# Altium footprint library CONN_HDR_2.54MM_ST_SMDE.PcbLib: 38 footprints (part 2 of 3)
Each footprint in its own frame and in the unit in brackets; x right, y up, seen from the top. Pads: shape width x height; smd on the part's side, far side on the other; paste and mask are expansions set on the pad; w line width, h text height; cw(c..) or ccw(c..) is an arc to the next point about the centre after c.
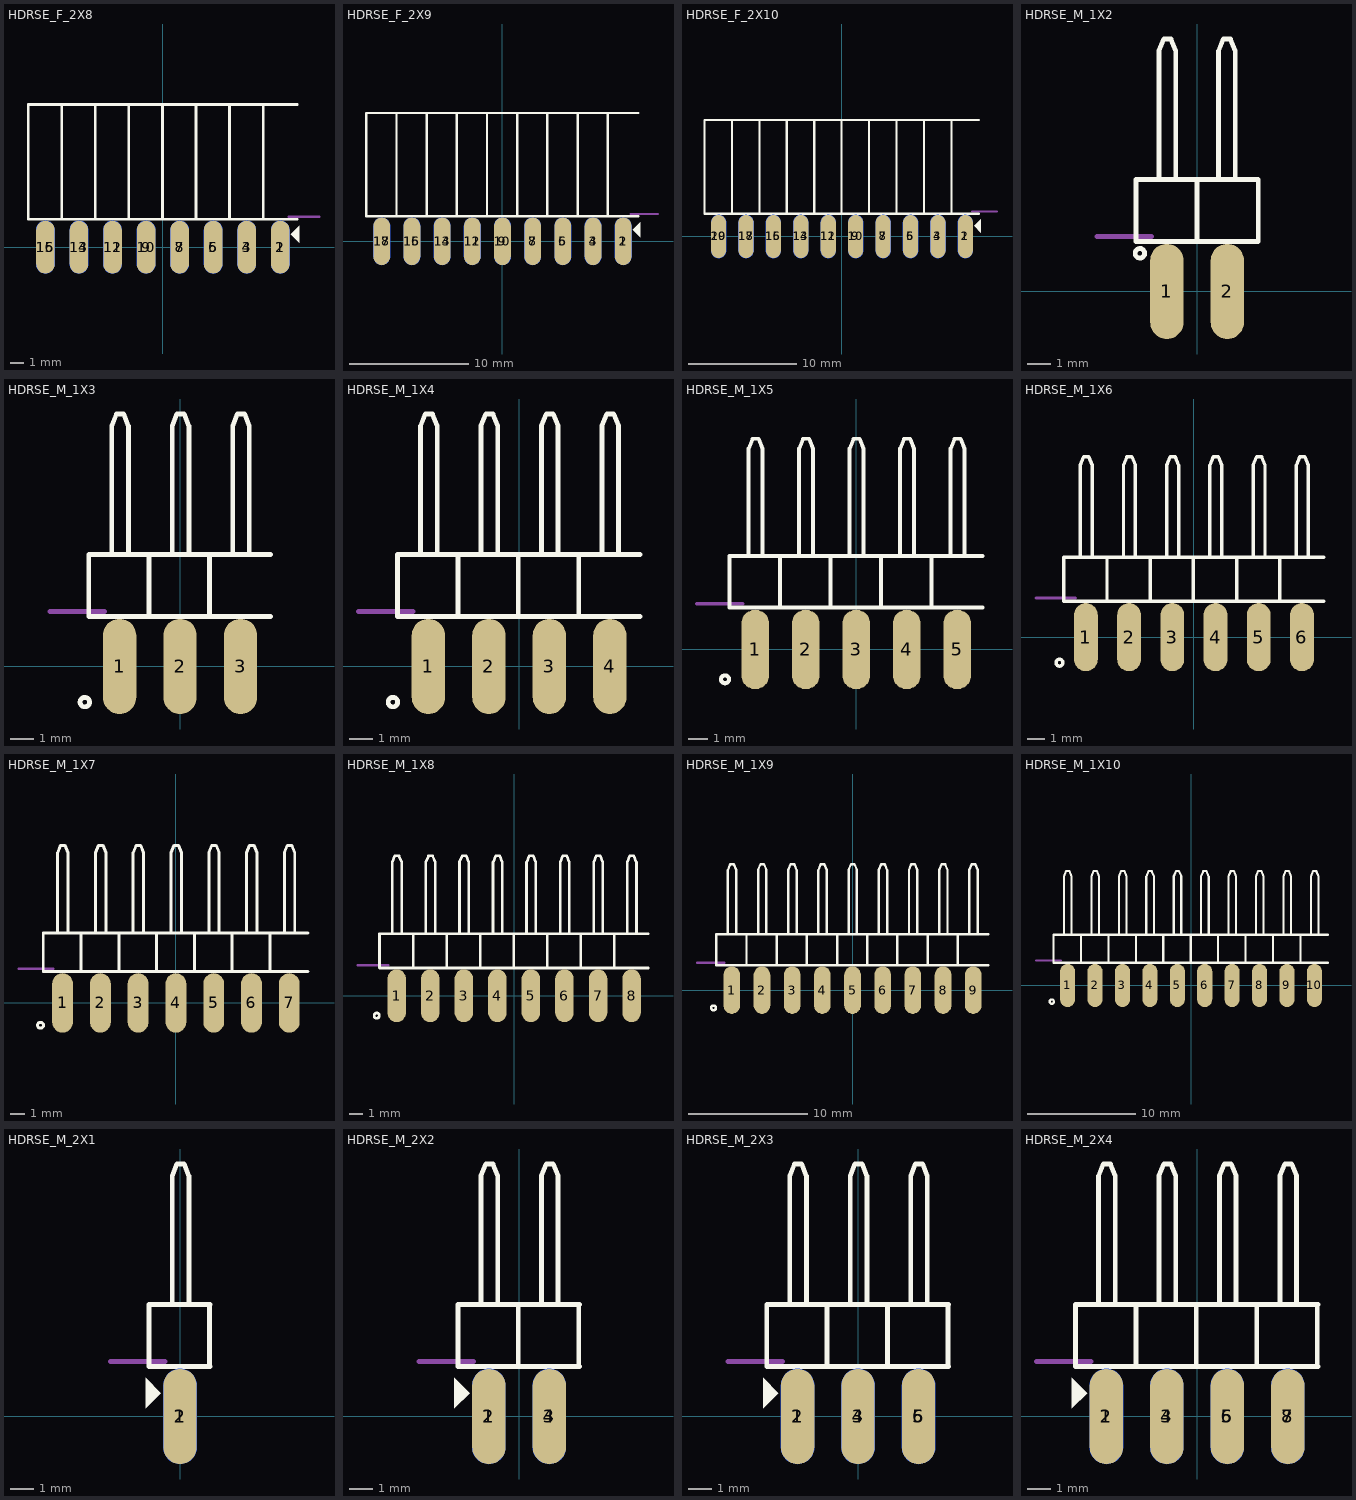
[diagram p1: the footprints below, top view; thin cyan lines are the x and y axes]

## HDRSE_F_2X8 [mm] "Male Header 2X08 with 2.54 mm Pitch"
pads (16):
  oval 1.4x4 smd: 1(8.89,0) 3(6.35,0) 5(3.81,0) 7(1.27,0) 9(-1.27,0) 11(-3.81,0) 13(-6.35,0) 15(-8.89,0)
  oval 1.4x4 smd far side: 2(8.89,0) 4(6.35,0) 6(3.81,0) 8(1.27,0) 10(-1.27,0) 12(-3.81,0) 14(-6.35,0) 16(-8.89,0)
TopOverlay:
  region: 10.333,0.342 9.697,0.979 10.333,1.615
  lines w0.2: -7.62,2.1 -10.19,2.1 -10.19,10.8 -7.62,10.8 ; -5.08,2.1 -7.65,2.1 -7.65,10.8 -5.08,10.8 ; -2.54,2.1 -5.11,2.1 -5.11,10.8 -2.54,10.8 ; 0,2.1 -2.57,2.1 -2.57,10.8 0,10.8 ; 2.54,2.1 -0.03,2.1 -0.03,10.8 2.54,10.8 ; 5.08,2.1 2.51,2.1 2.51,10.8 5.08,10.8 ; 7.62,2.1 5.05,2.1 5.05,10.8 7.62,10.8 ; 10.16,2.1 7.59,2.1 7.59,10.8 10.16,10.8
Mechanical1:
  lines w0.2: 9.52,2.3 11.82,2.3
  text "Edge of PCB" at 9.7,2.5 h0.4
3D body "female_header_a-bl254-eg-g02d.stp": height 2.67, standoff -2.67, extent -10.09,-1 -7.59,10.7
3D body "female_header_a-bl254-eg-g02d.stp": height 2.67, standoff -2.67, extent -7.55,-1 -5.05,10.7
3D body "female_header_a-bl254-eg-g02d.stp": height 2.67, standoff -2.67, extent -5.01,-1 -2.51,10.7
3D body "female_header_a-bl254-eg-g02d.stp": height 2.67, standoff -2.67, extent -2.47,-1 0.03,10.7
3D body "female_header_a-bl254-eg-g02d.stp": height 2.67, standoff -2.67, extent 0.07,-1 2.57,10.7
3D body "female_header_a-bl254-eg-g02d.stp": height 2.67, standoff -2.67, extent 2.61,-1 5.11,10.7
3D body "female_header_a-bl254-eg-g02d.stp": height 2.67, standoff -2.67, extent 5.15,-1 7.65,10.7
3D body "female_header_a-bl254-eg-g02d.stp": height 2.67, standoff -2.67, extent 7.69,-1 10.19,10.7

## HDRSE_F_2X9 [mm] "Male Header 2X09 with 2.54 mm Pitch"
pads (18):
  oval 1.4x4 smd: 1(10.16,0) 3(7.62,0) 5(5.08,0) 7(2.54,0) 9(0,0) 11(-2.54,0) 13(-5.08,0) 15(-7.62,0) 17(-10.16,0)
  oval 1.4x4 smd far side: 2(10.16,0) 4(7.62,0) 6(5.08,0) 8(2.54,0) 10(0,0) 12(-2.54,0) 14(-5.08,0) 16(-7.62,0) 18(-10.16,0)
TopOverlay:
  region: 11.603,0.342 10.967,0.979 11.603,1.615
  lines w0.2: -8.89,2.1 -11.46,2.1 -11.46,10.8 -8.89,10.8 ; -6.35,2.1 -8.92,2.1 -8.92,10.8 -6.35,10.8 ; -3.81,2.1 -6.38,2.1 -6.38,10.8 -3.81,10.8 ; -1.27,2.1 -3.84,2.1 -3.84,10.8 -1.27,10.8 ; 1.27,2.1 -1.3,2.1 -1.3,10.8 1.27,10.8 ; 3.81,2.1 1.24,2.1 1.24,10.8 3.81,10.8 ; 6.35,2.1 3.78,2.1 3.78,10.8 6.35,10.8 ; 8.89,2.1 6.32,2.1 6.32,10.8 8.89,10.8 ; 11.43,2.1 8.86,2.1 8.86,10.8 11.43,10.8
Mechanical1:
  lines w0.2: 10.79,2.3 13.09,2.3
  text "Edge of PCB" at 10.9,2.6 h0.4
3D body "female_header_a-bl254-eg-g02d.stp": height 2.67, standoff -2.67, extent -11.36,-1 -8.86,10.7
3D body "female_header_a-bl254-eg-g02d.stp": height 2.67, standoff -2.67, extent -8.82,-1 -6.32,10.7
3D body "female_header_a-bl254-eg-g02d.stp": height 2.67, standoff -2.67, extent -6.28,-1 -3.78,10.7
3D body "female_header_a-bl254-eg-g02d.stp": height 2.67, standoff -2.67, extent -3.74,-1 -1.24,10.7
3D body "female_header_a-bl254-eg-g02d.stp": height 2.67, standoff -2.67, extent -1.2,-1 1.3,10.7
3D body "female_header_a-bl254-eg-g02d.stp": height 2.67, standoff -2.67, extent 1.34,-1 3.84,10.7
3D body "female_header_a-bl254-eg-g02d.stp": height 2.67, standoff -2.67, extent 3.88,-1 6.38,10.7
3D body "female_header_a-bl254-eg-g02d.stp": height 2.67, standoff -2.67, extent 6.42,-1 8.92,10.7
3D body "female_header_a-bl254-eg-g02d.stp": height 2.67, standoff -2.67, extent 8.96,-1 11.46,10.7

## HDRSE_F_2X10 [mm] "Male Header 2X10 with 2.54 mm Pitch"
pads (20):
  oval 1.4x4 smd: 1(11.43,0) 3(8.89,0) 5(6.35,0) 7(3.81,0) 9(1.27,0) 11(-1.27,0) 13(-3.81,0) 15(-6.35,0) 17(-8.89,0) 19(-11.43,0)
  oval 1.4x4 smd far side: 2(11.43,0) 4(8.89,0) 6(6.35,0) 8(3.81,0) 10(1.27,0) 12(-1.27,0) 14(-3.81,0) 16(-6.35,0) 18(-8.89,0) 20(-11.43,0)
TopOverlay:
  region: 12.873,0.342 12.237,0.979 12.873,1.615
  lines w0.2: -10.16,2.1 -12.73,2.1 -12.73,10.8 -10.16,10.8 ; -7.62,2.1 -10.19,2.1 -10.19,10.8 -7.62,10.8 ; -5.08,2.1 -7.65,2.1 -7.65,10.8 -5.08,10.8 ; -2.54,2.1 -5.11,2.1 -5.11,10.8 -2.54,10.8 ; 0,2.1 -2.57,2.1 -2.57,10.8 0,10.8 ; 2.54,2.1 -0.03,2.1 -0.03,10.8 2.54,10.8 ; 5.08,2.1 2.51,2.1 2.51,10.8 5.08,10.8 ; 7.62,2.1 5.05,2.1 5.05,10.8 7.62,10.8 ; 10.16,2.1 7.59,2.1 7.59,10.8 10.16,10.8 ; 12.7,2.1 10.13,2.1 10.13,10.8 12.7,10.8
Mechanical1:
  lines w0.2: 12.06,2.3 14.36,2.3
  text "Edge of PCB" at 12.2,2.6 h0.4
3D body "female_header_a-bl254-eg-g02d.stp": height 2.67, standoff -2.67, extent 10.23,-1 12.73,10.7
3D body "female_header_a-bl254-eg-g02d.stp": height 2.67, standoff -2.67, extent 7.69,-1 10.19,10.7
3D body "female_header_a-bl254-eg-g02d.stp": height 2.67, standoff -2.67, extent 5.15,-1 7.65,10.7
3D body "female_header_a-bl254-eg-g02d.stp": height 2.67, standoff -2.67, extent 2.61,-1 5.11,10.7
3D body "female_header_a-bl254-eg-g02d.stp": height 2.67, standoff -2.67, extent 0.07,-1 2.57,10.7
3D body "female_header_a-bl254-eg-g02d.stp": height 2.67, standoff -2.67, extent -2.47,-1 0.03,10.7
3D body "female_header_a-bl254-eg-g02d.stp": height 2.67, standoff -2.67, extent -5.01,-1 -2.51,10.7
3D body "female_header_a-bl254-eg-g02d.stp": height 2.67, standoff -2.67, extent -7.55,-1 -5.05,10.7
3D body "female_header_a-bl254-eg-g02d.stp": height 2.67, standoff -2.67, extent -10.09,-1 -7.59,10.7
3D body "female_header_a-bl254-eg-g02d.stp": height 2.67, standoff -2.67, extent -12.63,-1 -10.13,10.7

## HDRSE_M_1X2 [mm] "Connector; Header; 2 Position, SMD edge"
height 1.8
pads (2):
  oval 1.4x4 smd mask+0.1: 1(-1.27,0) 2(1.27,0)
TopOverlay:
  circle w0.2: c-2.4,1.6 r0.2
  lines w0.2: -1.6,4.7 -1.6,10.1 -1.4,10.6 -1.1,10.6 -0.9,10.1 ; -0.9,4.7 -0.9,10.1 ; 0.9,4.7 0.9,10.1 ; 1.6,4.7 1.6,10.1 1.4,10.6 1.1,10.6 0.9,10.1 ; -0.9,10.1 -0.9,10.1 ; 0,2.1 0,4.7 ; 0,2.1 -2.57,2.1 -2.57,4.7 0,4.7 ; 0,2.1 2.57,2.1 2.57,4.7 0,4.7 ; 0.9,10.1 0.9,10.1
Mechanical1:
  lines w0.2: -4.2,2.3 -1.9,2.3
  text "Edge of PCB" at -4.3,2.5 h0.4
3D body "pin_header_aw140-eg-g02a.stp": height 1.55, standoff -0.95, extent -2.54,-1.78 2.44,10.62

## HDRSE_M_1X3 [mm] "Connector; Header; 3 Position"
pads (3):
  oval 1.4x4 smd mask+0.1: 1(-2.54,0) 2(0,0) 3(2.54,0)
TopOverlay:
  circle w0.2: c-4,-1.5 r0.2
  lines w0.2: -2.87,4.7 -2.87,10.1 -2.67,10.6 -2.37,10.6 -2.17,10.1 ; -2.17,4.7 -2.17,10.1 ; -1.27,2.1 -3.84,2.1 -3.84,4.7 -1.27,4.7 ; -0.33,4.7 -0.33,10.1 -0.13,10.6 0.17,10.6 0.37,10.1 ; 0.37,4.7 0.37,10.1 ; 1.27,2.1 -1.3,2.1 -1.3,4.7 1.27,4.7 ; 2.21,4.7 2.21,10.1 2.41,10.6 2.71,10.6 2.91,10.1 ; 2.91,4.7 2.91,10.1 ; 3.81,2.1 1.24,2.1 1.24,4.7 3.81,4.7 ; -2.17,10.1 -2.17,10.1 ; 0.37,10.1 0.37,10.1 ; 2.91,10.1 2.91,10.1
Mechanical1:
  lines w0.2: -5.47,2.3 -3.17,2.3
  text "Edge of PCB" at -5.57,2.5 h0.4
3D body "PLS-1.step": height 1.37, standoff -1.17, extent 1.295,-0.9 3.835,10.54
3D body "PLS-1.step": height 1.37, standoff -1.17, extent -1.245,-0.9 1.295,10.54
3D body "PLS-1.step": height 1.37, standoff -1.17, extent -3.785,-0.9 -1.245,10.54

## HDRSE_M_1X4 [mm] "Connector; Header; 4 Position"
pads (4):
  oval 1.4x4 smd mask+0.1: 1(-3.81,0) 2(-1.27,0) 3(1.27,0) 4(3.81,0)
TopOverlay:
  circle w0.2: c-5.3,-1.5 r0.2
  lines w0.2: -4.14,4.7 -4.14,10.1 -3.94,10.6 -3.64,10.6 -3.44,10.1 ; -3.44,4.7 -3.44,10.1 ; -2.54,2.1 -5.11,2.1 -5.11,4.7 -2.54,4.7 ; -1.6,4.7 -1.6,10.1 -1.4,10.6 -1.1,10.6 -0.9,10.1 ; -0.9,4.7 -0.9,10.1 ; 0,2.1 -2.57,2.1 -2.57,4.7 0,4.7 ; 0.94,4.7 0.94,10.1 1.14,10.6 1.44,10.6 1.64,10.1 ; 1.64,4.7 1.64,10.1 ; 2.54,2.1 -0.03,2.1 -0.03,4.7 2.54,4.7 ; 3.48,4.7 3.48,10.1 3.68,10.6 3.98,10.6 4.18,10.1 ; 4.18,4.7 4.18,10.1 ; 5.08,2.1 2.51,2.1 2.51,4.7 5.08,4.7 ; -3.44,10.1 -3.44,10.1 ; -0.9,10.1 -0.9,10.1 ; 1.64,10.1 1.64,10.1 ; 4.18,10.1 4.18,10.1
Mechanical1:
  lines w0.2: -6.74,2.3 -4.44,2.3
  text "Edge of PCB" at -6.84,2.5 h0.4
3D body "PLS-1.step": height 1.37, standoff -1.17, extent -5.055,-0.9 -2.515,10.54
3D body "PLS-1.step": height 1.37, standoff -1.17, extent -2.515,-0.9 0.025,10.54
3D body "PLS-1.step": height 1.37, standoff -1.17, extent 0.025,-0.9 2.565,10.54
3D body "PLS-1.step": height 1.37, standoff -1.17, extent 2.565,-0.9 5.105,10.54

## HDRSE_M_1X5 [mm] "Connector; Header; 5 Position"
pads (5):
  oval 1.4x4 smd mask+0.1: 1(-5.08,0) 2(-2.54,0) 3(0,0) 4(2.54,0) 5(5.08,0)
TopOverlay:
  circle w0.2: c-6.6,-1.5 r0.2
  lines w0.2: -5.41,4.7 -5.41,10.1 -5.21,10.6 -4.91,10.6 -4.71,10.1 ; -4.71,4.7 -4.71,10.1 ; -3.81,2.1 -6.38,2.1 -6.38,4.7 -3.81,4.7 ; -2.87,4.7 -2.87,10.1 -2.67,10.6 -2.37,10.6 -2.17,10.1 ; -2.17,4.7 -2.17,10.1 ; -1.27,2.1 -3.84,2.1 -3.84,4.7 -1.27,4.7 ; -0.33,4.7 -0.33,10.1 -0.13,10.6 0.17,10.6 0.37,10.1 ; 0.37,4.7 0.37,10.1 ; 1.27,2.1 -1.3,2.1 -1.3,4.7 1.27,4.7 ; 2.21,4.7 2.21,10.1 2.41,10.6 2.71,10.6 2.91,10.1 ; 2.91,4.7 2.91,10.1 ; 3.81,2.1 1.24,2.1 1.24,4.7 3.81,4.7 ; 4.75,4.7 4.75,10.1 4.95,10.6 5.25,10.6 5.45,10.1 ; 5.45,4.7 5.45,10.1 ; 6.35,2.1 3.78,2.1 3.78,4.7 6.35,4.7 ; -4.71,10.1 -4.71,10.1 ; -2.17,10.1 -2.17,10.1 ; 0.37,10.1 0.37,10.1 ; 2.91,10.1 2.91,10.1 ; 5.45,10.1 5.45,10.1
Mechanical1:
  lines w0.2: -8.01,2.3 -5.71,2.3
  text "Edge of PCB" at -8.11,2.5 h0.4
3D body "PLS-1.step": height 1.37, standoff -1.17, extent 3.835,-0.9 6.375,10.54
3D body "PLS-1.step": height 1.37, standoff -1.17, extent 1.295,-0.9 3.835,10.54
3D body "PLS-1.step": height 1.37, standoff -1.17, extent -1.245,-0.9 1.295,10.54
3D body "PLS-1.step": height 1.37, standoff -1.17, extent -3.785,-0.9 -1.245,10.54
3D body "PLS-1.step": height 1.37, standoff -1.17, extent -6.325,-0.9 -3.785,10.54

## HDRSE_M_1X6 [mm] "Connector; Header; 6 Position"
pads (6):
  oval 1.4x4 smd mask+0.1: 1(-6.35,0) 2(-3.81,0) 3(-1.27,0) 4(1.27,0) 5(3.81,0) 6(6.35,0)
TopOverlay:
  circle w0.2: c-7.9,-1.5 r0.2
  lines w0.2: -6.68,4.7 -6.68,10.1 -6.48,10.6 -6.18,10.6 -5.98,10.1 ; -5.98,4.7 -5.98,10.1 ; -5.08,2.1 -7.65,2.1 -7.65,4.7 -5.08,4.7 ; -4.14,4.7 -4.14,10.1 -3.94,10.6 -3.64,10.6 -3.44,10.1 ; -3.44,4.7 -3.44,10.1 ; -2.54,2.1 -5.11,2.1 -5.11,4.7 -2.54,4.7 ; -1.6,4.7 -1.6,10.1 -1.4,10.6 -1.1,10.6 -0.9,10.1 ; -0.9,4.7 -0.9,10.1 ; 0,2.1 -2.57,2.1 -2.57,4.7 0,4.7 ; 0.94,4.7 0.94,10.1 1.14,10.6 1.44,10.6 1.64,10.1 ; 1.64,4.7 1.64,10.1 ; 2.54,2.1 -0.03,2.1 -0.03,4.7 2.54,4.7 ; 3.48,4.7 3.48,10.1 3.68,10.6 3.98,10.6 4.18,10.1 ; 4.18,4.7 4.18,10.1 ; 5.08,2.1 2.51,2.1 2.51,4.7 5.08,4.7 ; 6.02,4.7 6.02,10.1 6.22,10.6 6.52,10.6 6.72,10.1 ; 6.72,4.7 6.72,10.1 ; 7.62,2.1 5.05,2.1 5.05,4.7 7.62,4.7 ; -5.98,10.1 -5.98,10.1 ; -3.44,10.1 -3.44,10.1 ; -0.9,10.1 -0.9,10.1 ; 1.64,10.1 1.64,10.1 ; 4.18,10.1 4.18,10.1 ; 6.72,10.1 6.72,10.1
Mechanical1:
  lines w0.2: -9.28,2.3 -6.98,2.3
  text "Edge of PCB" at -9.38,2.5 h0.4
3D body "PLS-1.step": height 1.37, standoff -1.17, extent 5.105,-0.9 7.645,10.54
3D body "PLS-1.step": height 1.37, standoff -1.17, extent 2.565,-0.9 5.105,10.54
3D body "PLS-1.step": height 1.37, standoff -1.17, extent 0.025,-0.9 2.565,10.54
3D body "PLS-1.step": height 1.37, standoff -1.17, extent -2.515,-0.9 0.025,10.54
3D body "PLS-1.step": height 1.37, standoff -1.17, extent -5.055,-0.9 -2.515,10.54
3D body "PLS-1.step": height 1.37, standoff -1.17, extent -7.595,-0.9 -5.055,10.54

## HDRSE_M_1X7 [mm] "Connector; Header; 7 Position"
pads (7):
  oval 1.4x4 smd mask+0.1: 1(-7.62,0) 2(-5.08,0) 3(-2.54,0) 4(0,0) 5(2.54,0) 6(5.08,0) 7(7.62,0)
TopOverlay:
  circle w0.2: c-9.1,-1.5 r0.2
  lines w0.2: -7.95,4.7 -7.95,10.1 -7.75,10.6 -7.45,10.6 -7.25,10.1 ; -7.25,4.7 -7.25,10.1 ; -6.35,2.1 -8.92,2.1 -8.92,4.7 -6.35,4.7 ; -5.41,4.7 -5.41,10.1 -5.21,10.6 -4.91,10.6 -4.71,10.1 ; -4.71,4.7 -4.71,10.1 ; -3.81,2.1 -6.38,2.1 -6.38,4.7 -3.81,4.7 ; -2.87,4.7 -2.87,10.1 -2.67,10.6 -2.37,10.6 -2.17,10.1 ; -2.17,4.7 -2.17,10.1 ; -1.27,2.1 -3.84,2.1 -3.84,4.7 -1.27,4.7 ; -0.33,4.7 -0.33,10.1 -0.13,10.6 0.17,10.6 0.37,10.1 ; 0.37,4.7 0.37,10.1 ; 1.27,2.1 -1.3,2.1 -1.3,4.7 1.27,4.7 ; 2.21,4.7 2.21,10.1 2.41,10.6 2.71,10.6 2.91,10.1 ; 2.91,4.7 2.91,10.1 ; 3.81,2.1 1.24,2.1 1.24,4.7 3.81,4.7 ; 4.75,4.7 4.75,10.1 4.95,10.6 5.25,10.6 5.45,10.1 ; 5.45,4.7 5.45,10.1 ; 6.35,2.1 3.78,2.1 3.78,4.7 6.35,4.7 ; 7.29,4.7 7.29,10.1 7.49,10.6 7.79,10.6 7.99,10.1 ; 7.99,4.7 7.99,10.1 ; 8.89,2.1 6.32,2.1 6.32,4.7 8.89,4.7 ; -7.25,10.1 -7.25,10.1 ; -4.71,10.1 -4.71,10.1 ; -2.17,10.1 -2.17,10.1 ; 0.37,10.1 0.37,10.1 ; 2.91,10.1 2.91,10.1 ; 5.45,10.1 5.45,10.1 ; 7.99,10.1 7.99,10.1
Mechanical1:
  lines w0.2: -10.55,2.3 -8.25,2.3
  text "Edge of PCB" at -10.65,2.5 h0.4
3D body "PLS-1.step": height 1.37, standoff -1.17, extent 6.375,-0.9 8.915,10.54
3D body "PLS-1.step": height 1.37, standoff -1.17, extent 3.835,-0.9 6.375,10.54
3D body "PLS-1.step": height 1.37, standoff -1.17, extent 1.295,-0.9 3.835,10.54
3D body "PLS-1.step": height 1.37, standoff -1.17, extent -1.245,-0.9 1.295,10.54
3D body "PLS-1.step": height 1.37, standoff -1.17, extent -3.785,-0.9 -1.245,10.54
3D body "PLS-1.step": height 1.37, standoff -1.17, extent -6.325,-0.9 -3.785,10.54
3D body "PLS-1.step": height 1.37, standoff -1.17, extent -8.865,-0.9 -6.325,10.54

## HDRSE_M_1X8 [mm] "Connector; Header; 8 Position"
pads (8):
  oval 1.4x4 smd mask+0.1: 1(-8.89,0) 2(-6.35,0) 3(-3.81,0) 4(-1.27,0) 5(1.27,0) 6(3.81,0) 7(6.35,0) 8(8.89,0)
TopOverlay:
  circle w0.2: c-10.4,-1.5 r0.2
  lines w0.2: -9.22,4.7 -9.22,10.1 -9.02,10.6 -8.72,10.6 -8.52,10.1 ; -8.52,4.7 -8.52,10.1 ; -7.62,2.1 -10.19,2.1 -10.19,4.7 -7.62,4.7 ; -6.68,4.7 -6.68,10.1 -6.48,10.6 -6.18,10.6 -5.98,10.1 ; -5.98,4.7 -5.98,10.1 ; -5.08,2.1 -7.65,2.1 -7.65,4.7 -5.08,4.7 ; -4.14,4.7 -4.14,10.1 -3.94,10.6 -3.64,10.6 -3.44,10.1 ; -3.44,4.7 -3.44,10.1 ; -2.54,2.1 -5.11,2.1 -5.11,4.7 -2.54,4.7 ; -1.6,4.7 -1.6,10.1 -1.4,10.6 -1.1,10.6 -0.9,10.1 ; -0.9,4.7 -0.9,10.1 ; 0,2.1 -2.57,2.1 -2.57,4.7 0,4.7 ; 0.94,4.7 0.94,10.1 1.14,10.6 1.44,10.6 1.64,10.1 ; 1.64,4.7 1.64,10.1 ; 2.54,2.1 -0.03,2.1 -0.03,4.7 2.54,4.7 ; 3.48,4.7 3.48,10.1 3.68,10.6 3.98,10.6 4.18,10.1 ; 4.18,4.7 4.18,10.1 ; 5.08,2.1 2.51,2.1 2.51,4.7 5.08,4.7 ; 6.02,4.7 6.02,10.1 6.22,10.6 6.52,10.6 6.72,10.1 ; 6.72,4.7 6.72,10.1 ; 7.62,2.1 5.05,2.1 5.05,4.7 7.62,4.7 ; 8.56,4.7 8.56,10.1 8.76,10.6 9.06,10.6 9.26,10.1 ; 9.26,4.7 9.26,10.1 ; 10.16,2.1 7.59,2.1 7.59,4.7 10.16,4.7 ; -8.52,10.1 -8.52,10.1 ; -5.98,10.1 -5.98,10.1 ; -3.44,10.1 -3.44,10.1 ; -0.9,10.1 -0.9,10.1 ; 1.64,10.1 1.64,10.1 ; 4.18,10.1 4.18,10.1 ; 6.72,10.1 6.72,10.1 ; 9.26,10.1 9.26,10.1
Mechanical1:
  lines w0.2: -11.82,2.3 -9.52,2.3
  text "Edge of PCB" at -11.92,2.5 h0.4
3D body "PLS-1.step": height 1.37, standoff -1.17, extent 7.645,-0.9 10.185,10.54
3D body "PLS-1.step": height 1.37, standoff -1.17, extent 5.105,-0.9 7.645,10.54
3D body "PLS-1.step": height 1.37, standoff -1.17, extent 2.565,-0.9 5.105,10.54
3D body "PLS-1.step": height 1.37, standoff -1.17, extent 0.025,-0.9 2.565,10.54
3D body "PLS-1.step": height 1.37, standoff -1.17, extent -2.515,-0.9 0.025,10.54
3D body "PLS-1.step": height 1.37, standoff -1.17, extent -5.055,-0.9 -2.515,10.54
3D body "PLS-1.step": height 1.37, standoff -1.17, extent -7.595,-0.9 -5.055,10.54
3D body "PLS-1.step": height 1.37, standoff -1.17, extent -10.135,-0.9 -7.595,10.54

## HDRSE_M_1X9 [mm] "Connector; Header; 9 Position"
pads (9):
  oval 1.4x4 smd mask+0.1: 1(-10.16,0) 2(-7.62,0) 3(-5.08,0) 4(-2.54,0) 5(0,0) 6(2.54,0) 7(5.08,0) 8(7.62,0) 9(10.16,0)
TopOverlay:
  circle w0.2: c-11.7,-1.5 r0.2
  lines w0.2: -10.49,4.7 -10.49,10.1 -10.29,10.6 -9.99,10.6 -9.79,10.1 ; -9.79,4.7 -9.79,10.1 ; -8.89,2.1 -11.46,2.1 -11.46,4.7 -8.89,4.7 ; -7.95,4.7 -7.95,10.1 -7.75,10.6 -7.45,10.6 -7.25,10.1 ; -7.25,4.7 -7.25,10.1 ; -6.35,2.1 -8.92,2.1 -8.92,4.7 -6.35,4.7 ; -5.41,4.7 -5.41,10.1 -5.21,10.6 -4.91,10.6 -4.71,10.1 ; -4.71,4.7 -4.71,10.1 ; -3.81,2.1 -6.38,2.1 -6.38,4.7 -3.81,4.7 ; -2.87,4.7 -2.87,10.1 -2.67,10.6 -2.37,10.6 -2.17,10.1 ; -2.17,4.7 -2.17,10.1 ; -1.27,2.1 -3.84,2.1 -3.84,4.7 -1.27,4.7 ; -0.33,4.7 -0.33,10.1 -0.13,10.6 0.17,10.6 0.37,10.1 ; 0.37,4.7 0.37,10.1 ; 1.27,2.1 -1.3,2.1 -1.3,4.7 1.27,4.7 ; 2.21,4.7 2.21,10.1 2.41,10.6 2.71,10.6 2.91,10.1 ; 2.91,4.7 2.91,10.1 ; 3.81,2.1 1.24,2.1 1.24,4.7 3.81,4.7 ; 4.75,4.7 4.75,10.1 4.95,10.6 5.25,10.6 5.45,10.1 ; 5.45,4.7 5.45,10.1 ; 6.35,2.1 3.78,2.1 3.78,4.7 6.35,4.7 ; 7.29,4.7 7.29,10.1 7.49,10.6 7.79,10.6 7.99,10.1 ; 7.99,4.7 7.99,10.1 ; 8.89,2.1 6.32,2.1 6.32,4.7 8.89,4.7 ; 9.83,4.7 9.83,10.1 10.03,10.6 10.33,10.6 10.53,10.1 ; 10.53,4.7 10.53,10.1 ; 11.43,2.1 8.86,2.1 8.86,4.7 11.43,4.7 ; -9.79,10.1 -9.79,10.1 ; -7.25,10.1 -7.25,10.1 ; -4.71,10.1 -4.71,10.1 ; -2.17,10.1 -2.17,10.1 ; 0.37,10.1 0.37,10.1 ; 2.91,10.1 2.91,10.1 ; 5.45,10.1 5.45,10.1 ; 7.99,10.1 7.99,10.1 ; 10.53,10.1 10.53,10.1
Mechanical1:
  lines w0.2: -13.09,2.3 -10.79,2.3
  text "Edge of PCB" at -13.19,2.5 h0.4
3D body "PLS-1.step": height 1.37, standoff -1.17, extent 8.915,-0.9 11.455,10.54
3D body "PLS-1.step": height 1.37, standoff -1.17, extent 6.375,-0.9 8.915,10.54
3D body "PLS-1.step": height 1.37, standoff -1.17, extent 3.835,-0.9 6.375,10.54
3D body "PLS-1.step": height 1.37, standoff -1.17, extent 1.295,-0.9 3.835,10.54
3D body "PLS-1.step": height 1.37, standoff -1.17, extent -1.245,-0.9 1.295,10.54
3D body "PLS-1.step": height 1.37, standoff -1.17, extent -3.785,-0.9 -1.245,10.54
3D body "PLS-1.step": height 1.37, standoff -1.17, extent -6.325,-0.9 -3.785,10.54
3D body "PLS-1.step": height 1.37, standoff -1.17, extent -8.865,-0.9 -6.325,10.54
3D body "PLS-1.step": height 1.37, standoff -1.17, extent -11.405,-0.9 -8.865,10.54

## HDRSE_M_1X10 [mm] "Connector; Header; 10 Position"
pads (10):
  oval 1.4x4 smd mask+0.1: 1(-11.43,0) 2(-8.89,0) 3(-6.35,0) 4(-3.81,0) 5(-1.27,0) 6(1.27,0) 7(3.81,0) 8(6.35,0) 9(8.89,0) 10(11.43,0)
TopOverlay:
  circle w0.2: c-12.9,-1.5 r0.2
  lines w0.2: -11.76,4.7 -11.76,10.1 -11.56,10.6 -11.26,10.6 -11.06,10.1 ; -11.06,4.7 -11.06,10.1 ; -10.16,2.1 -12.73,2.1 -12.73,4.7 -10.16,4.7 ; -9.22,4.7 -9.22,10.1 -9.02,10.6 -8.72,10.6 -8.52,10.1 ; -8.52,4.7 -8.52,10.1 ; -7.62,2.1 -10.19,2.1 -10.19,4.7 -7.62,4.7 ; -6.68,4.7 -6.68,10.1 -6.48,10.6 -6.18,10.6 -5.98,10.1 ; -5.98,4.7 -5.98,10.1 ; -5.08,2.1 -7.65,2.1 -7.65,4.7 -5.08,4.7 ; -4.14,4.7 -4.14,10.1 -3.94,10.6 -3.64,10.6 -3.44,10.1 ; -3.44,4.7 -3.44,10.1 ; -2.54,2.1 -5.11,2.1 -5.11,4.7 -2.54,4.7 ; -1.6,4.7 -1.6,10.1 -1.4,10.6 -1.1,10.6 -0.9,10.1 ; -0.9,4.7 -0.9,10.1 ; 0,2.1 -2.57,2.1 -2.57,4.7 0,4.7 ; 0.94,4.7 0.94,10.1 1.14,10.6 1.44,10.6 1.64,10.1 ; 1.64,4.7 1.64,10.1 ; 2.54,2.1 -0.03,2.1 -0.03,4.7 2.54,4.7 ; 3.48,4.7 3.48,10.1 3.68,10.6 3.98,10.6 4.18,10.1 ; 4.18,4.7 4.18,10.1 ; 5.08,2.1 2.51,2.1 2.51,4.7 5.08,4.7 ; 6.02,4.7 6.02,10.1 6.22,10.6 6.52,10.6 6.72,10.1 ; 6.72,4.7 6.72,10.1 ; 7.62,2.1 5.05,2.1 5.05,4.7 7.62,4.7 ; 8.56,4.7 8.56,10.1 8.76,10.6 9.06,10.6 9.26,10.1 ; 9.26,4.7 9.26,10.1 ; 10.16,2.1 7.59,2.1 7.59,4.7 10.16,4.7 ; 11.1,4.7 11.1,10.1 11.3,10.6 11.6,10.6 11.8,10.1 ; 11.8,4.7 11.8,10.1 ; 12.7,2.1 10.13,2.1 10.13,4.7 12.7,4.7 ; -11.06,10.1 -11.06,10.1 ; -8.52,10.1 -8.52,10.1 ; -5.98,10.1 -5.98,10.1 ; -3.44,10.1 -3.44,10.1 ; -0.9,10.1 -0.9,10.1 ; 1.64,10.1 1.64,10.1 ; 4.18,10.1 4.18,10.1 ; 6.72,10.1 6.72,10.1 ; 9.26,10.1 9.26,10.1 ; 11.8,10.1 11.8,10.1
Mechanical1:
  lines w0.2: -14.36,2.3 -12.06,2.3
  text "Edge of PCB" at -14.46,2.5 h0.4
3D body "PLS-1.step": height 1.37, standoff -1.17, extent -12.675,-0.9 -10.135,10.54
3D body "PLS-1.step": height 1.37, standoff -1.17, extent -10.135,-0.9 -7.595,10.54
3D body "PLS-1.step": height 1.37, standoff -1.17, extent -7.595,-0.9 -5.055,10.54
3D body "PLS-1.step": height 1.37, standoff -1.17, extent -5.055,-0.9 -2.515,10.54
3D body "PLS-1.step": height 1.37, standoff -1.17, extent -2.515,-0.9 0.025,10.54
3D body "PLS-1.step": height 1.37, standoff -1.17, extent 0.025,-0.9 2.565,10.54
3D body "PLS-1.step": height 1.37, standoff -1.17, extent 2.565,-0.9 5.105,10.54
3D body "PLS-1.step": height 1.37, standoff -1.17, extent 5.105,-0.9 7.645,10.54
3D body "PLS-1.step": height 1.37, standoff -1.17, extent 7.645,-0.9 10.185,10.54
3D body "PLS-1.step": height 1.37, standoff -1.17, extent 10.185,-0.9 12.725,10.54

## HDRSE_M_2X1 [mm] "Connector; Header; 2x1 Position"
pads (2):
  oval 1.4x4 smd: 1(0,0)
  oval 1.4x4 smd far side mask+0.1: 2(0,0)
TopOverlay:
  region: -1.443,0.342 -0.807,0.979 -1.443,1.615
  lines w0.2: -0.33,4.7 -0.33,10.1 -0.13,10.6 0.17,10.6 0.37,10.1 ; 0.37,4.7 0.37,10.1 ; 1.24,2.1 1.24,4.7 ; 1.27,2.1 -1.3,2.1 -1.3,4.7 1.27,4.7 ; 0.37,10.1 0.37,10.1
Mechanical1:
  lines w0.2: -2.93,2.3 -0.63,2.3
  text "Edge of PCB" at -3.03,2.5 h0.4
3D body "User Library-Header_Male_2Pin.STEP": height 1.27, standoff -3.81, extent -1.2,-1 1.29,10.54

## HDRSE_M_2X2 [mm] "Connector; Header; 2x2 Position"
pads (4):
  oval 1.4x4 smd: 1(-1.27,0)
  oval 1.4x4 smd far side mask+0.1: 2(-1.27,0) 4(1.27,0)
  oval 1.4x4 smd mask+0.1: 3(1.27,0)
TopOverlay:
  region: -2.713,0.342 -2.077,0.979 -2.713,1.615
  lines w0.2: -1.6,4.7 -1.6,10.1 -1.4,10.6 -1.1,10.6 -0.9,10.1 ; -0.9,4.7 -0.9,10.1 ; 0,2.1 -2.57,2.1 -2.57,4.7 0,4.7 ; 0.94,4.7 0.94,10.1 1.14,10.6 1.44,10.6 1.64,10.1 ; 1.64,4.7 1.64,10.1 ; 2.51,2.1 2.51,4.7 ; 2.54,2.1 -0.03,2.1 -0.03,4.7 2.54,4.7 ; -0.9,10.1 -0.9,10.1 ; 1.64,10.1 1.64,10.1
Mechanical1:
  lines w0.2: -4.2,2.3 -1.9,2.3
  text "Edge of PCB" at -4.3,2.5 h0.4
3D body "User Library-Header_Male_2Pin.STEP": height 1.27, standoff -3.81, extent 0.07,-1 2.56,10.54
3D body "User Library-Header_Male_2Pin.STEP": height 1.27, standoff -3.81, extent -2.47,-1 0.02,10.54

## HDRSE_M_2X3 [mm] "Connector; Header; 3x2 Position"
pads (6):
  oval 1.4x4 smd mask+0.1: 1(-2.54,0) 3(0,0) 5(2.54,0)
  oval 1.4x4 smd far side mask+0.1: 2(-2.54,0) 4(0,0) 6(2.54,0)
TopOverlay:
  region: -3.983,0.342 -3.347,0.979 -3.983,1.615
  lines w0.2: -2.87,4.7 -2.87,10.1 -2.67,10.6 -2.37,10.6 -2.17,10.1 ; -2.17,4.7 -2.17,10.1 ; -1.27,2.1 -3.84,2.1 -3.84,4.7 -1.27,4.7 ; -0.33,4.7 -0.33,10.1 -0.13,10.6 0.17,10.6 0.37,10.1 ; 0.37,4.7 0.37,10.1 ; 1.27,2.1 -1.3,2.1 -1.3,4.7 1.27,4.7 ; 2.21,4.7 2.21,10.1 2.41,10.6 2.71,10.6 2.91,10.1 ; 2.91,4.7 2.91,10.1 ; 3.78,2.1 3.78,4.7 ; 3.81,2.1 1.24,2.1 1.24,4.7 3.81,4.7 ; -2.17,10.1 -2.17,10.1 ; 0.37,10.1 0.37,10.1 ; 2.91,10.1 2.91,10.1
Mechanical1:
  lines w0.2: -5.47,2.3 -3.17,2.3
  text "Edge of PCB" at -5.57,2.5 h0.4
3D body "User Library-Header_Male_2Pin.STEP": height 1.27, standoff -3.81, extent 1.34,-1 3.83,10.54
3D body "User Library-Header_Male_2Pin.STEP": height 1.27, standoff -3.81, extent -1.2,-1 1.29,10.54
3D body "User Library-Header_Male_2Pin.STEP": height 1.27, standoff -3.81, extent -3.74,-1 -1.25,10.54

## HDRSE_M_2X4 [mm] "Male Header 2X04 with 2.54 mm Pitch"
pads (8):
  oval 1.4x4 smd mask+0.1: 1(-3.81,0) 3(-1.27,0) 5(1.27,0) 7(3.81,0)
  oval 1.4x4 smd far side mask+0.1: 2(-3.81,0) 4(-1.27,0) 6(1.27,0) 8(3.81,0)
TopOverlay:
  region: -5.253,0.342 -4.617,0.979 -5.253,1.615
  lines w0.2: -4.14,4.7 -4.14,10.1 -3.94,10.6 -3.64,10.6 -3.44,10.1 ; -3.44,4.7 -3.44,10.1 ; -2.54,2.1 -5.11,2.1 -5.11,4.7 -2.54,4.7 ; -1.6,4.7 -1.6,10.1 -1.4,10.6 -1.1,10.6 -0.9,10.1 ; -0.9,4.7 -0.9,10.1 ; 0,2.1 -2.57,2.1 -2.57,4.7 0,4.7 ; 0.94,4.7 0.94,10.1 1.14,10.6 1.44,10.6 1.64,10.1 ; 1.64,4.7 1.64,10.1 ; 2.54,2.1 -0.03,2.1 -0.03,4.7 2.54,4.7 ; 3.48,4.7 3.48,10.1 3.68,10.6 3.98,10.6 4.18,10.1 ; 4.18,4.7 4.18,10.1 ; 5.05,2.1 5.05,4.7 ; 5.08,2.1 2.51,2.1 2.51,4.7 5.08,4.7 ; -3.44,10.1 -3.44,10.1 ; -0.9,10.1 -0.9,10.1 ; 1.64,10.1 1.64,10.1 ; 4.18,10.1 4.18,10.1
Mechanical1:
  lines w0.2: -6.74,2.3 -4.44,2.3
  text "Edge of PCB" at -6.84,2.5 h0.4
3D body "User Library-Header_Male_2Pin.STEP": height 1.27, standoff -3.81, extent -5.01,-1 -2.52,10.54
3D body "User Library-Header_Male_2Pin.STEP": height 1.27, standoff -3.81, extent -2.47,-1 0.02,10.54
3D body "User Library-Header_Male_2Pin.STEP": height 1.27, standoff -3.81, extent 0.07,-1 2.56,10.54
3D body "User Library-Header_Male_2Pin.STEP": height 1.27, standoff -3.81, extent 2.61,-1 5.1,10.54